# Altium footprint library 7762761.PcbLib: 1 footprints
Each footprint in its own frame and in the unit in brackets; x right, y up, seen from the top. Pads: shape width x height; smd on the part's side, far side on the other; paste and mask are expansions set on the pad; w line width, h text height; cw(c..) or ccw(c..) is an arc to the next point about the centre after c.
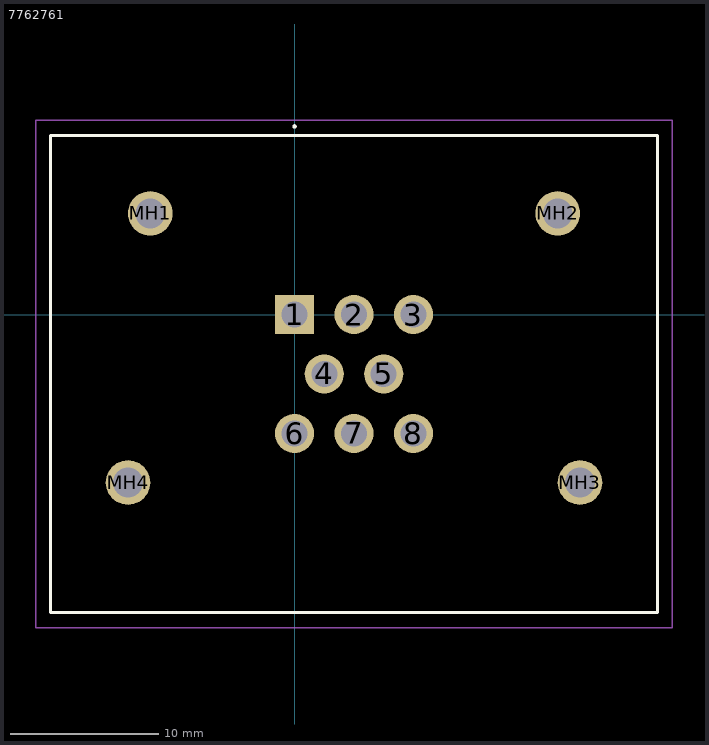
[diagram p0: the footprint, top view; thin cyan lines are the x and y axes]

## 7762761 [mm]
pads (12):
  rect 2.625x2.625 hole 1.75: 1(0,0)
  round 2.625 hole 1.75: 2(4,0) 3(8,0) 4(2,-4) 5(6,-4) 6(0,-8) 7(4,-8) 8(8,-8)
  round 3 hole 2: MH1(-9.7,6.8) MH2(17.7,6.8) MH3(19.2,-11.3) MH4(-11.2,-11.3)
Top Overlay:
  lines w0.2: 0,12.6 cw(c0,12.65) 0,12.7 ; 0,12.6 0,12.6 ; 0,12.6 ccw(c0,12.65) 0,12.7 ; 0,12.6 cw(c0,12.65) 0,12.7 ; 0,12.7 0,12.7 ; 0,12.7 0,12.7 ; -16.4,-20.05 24.4,-20.05 24.4,12.05 -16.4,12.05 -16.4,-20.05
Mechanical 15:
  lines w0.1: -16.4,-20.05 24.4,-20.05 24.4,12.05 -16.4,12.05 -16.4,-20.05
Mechanical 20:
  lines w0.1: -17.4,-21.05 25.4,-21.05 25.4,13.05 -17.4,13.05 -17.4,-21.05